# EAGLE library part MSP430F552X (library QuantumOptics)
MSP430F552x, TI MCU with ADCs, USB, bells & whistles, in 80-LQFP.
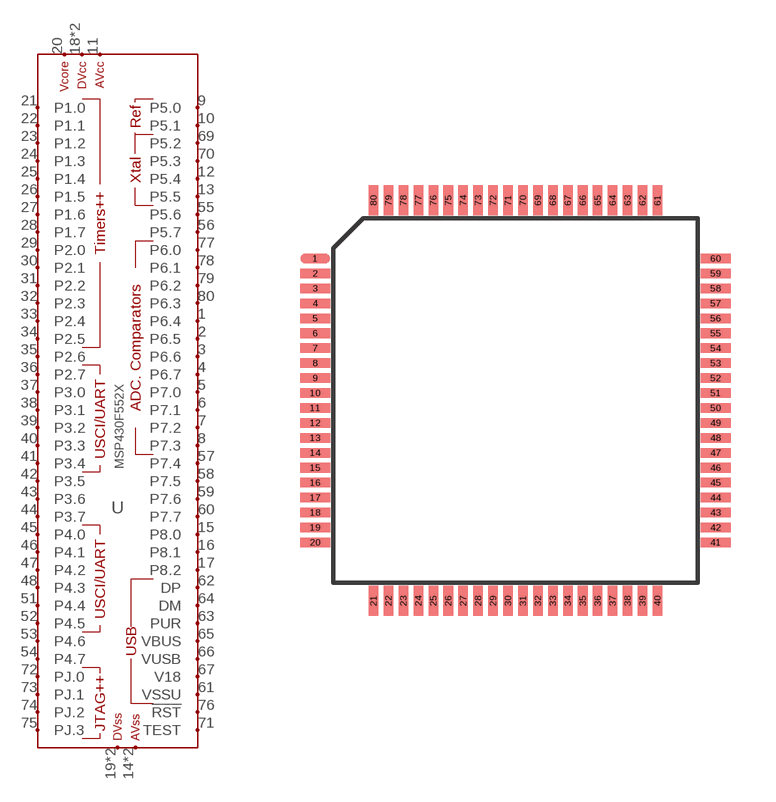
[diagram p205: symbol with the pads of QFP80(TI-PN_PACKAGE); footprint QFP80(TI-PN_PACKAGE)]

Designator prefix U

## MSP430F552X-QFP80  [QFP80(TI-PN_PACKAGE)]
1  P6.4
2  P6.5
3  P6.6
4  P6.7
5  P7.0
6  P7.1
7  P7.2
8  P7.3
9  P5.0
10  P5.1
11  AVCC
12  P5.4
13  P5.5
14  AVSS
15  P8.0
16  P8.1
17  P8.2
18  DVCC  in
19  DVSS  in
20  VCORE  in
21  P1.0
22  P1.1
23  P1.2
24  P1.3
25  P1.4
26  P1.5
27  P1.6
28  P1.7
29  P2.0
30  P2.1
31  P2.2
32  P2.3
33  P2.4
34  P2.5
35  P2.6
36  P2.7
37  P3.0
38  P3.1
39  P3.2
40  P3.3
41  P3.4
42  P3.5
43  P3.6
44  P3.7
45  P4.0
46  P4.1
47  P4.2
48  P4.3
49  DVSS  in
50  DVCC  in
51  P4.4
52  P4.5
53  P4.6
54  P4.7
55  P5.6
56  P5.7
57  P7.4
58  P7.5
59  P7.6
60  P7.7
61  VSSU
62  DP
63  PUR  in
64  DM
65  VBUS
66  VUSB
67  V18  out
68  AVSS
69  P5.2
70  P5.3
71  TEST  out
72  PJ.0
73  PJ.1
74  PJ.2
75  PJ.3
76  !RST  in
77  P6.0
78  P6.1
79  P6.2
80  P6.3

## Footprint QFP80(TI-PN_PACKAGE) (pad centres in mm)
QFN-80, AKA TI's S-PQFP-G80 & PN, as used on the MSP430 such as MSP430F552x. No pad.
smd 1 x 0.32: 1 -6.7,4.75; 2 -6.7,4.25; 3 -6.7,3.75; 4 -6.7,3.25; 5 -6.7,2.75; 6 -6.7,2.25; 7 -6.7,1.75; 8 -6.7,1.25; 9 -6.7,0.75; 10 -6.7,0.25; 11 -6.7,-0.25; 12 -6.7,-0.75; 13 -6.7,-1.25; 14 -6.7,-1.75; 15 -6.7,-2.25; 16 -6.7,-2.75; 17 -6.7,-3.25; 18 -6.7,-3.75; 19 -6.7,-4.25; 20 -6.7,-4.75; 41 6.7,-4.75; 42 6.7,-4.25; 43 6.7,-3.75; 44 6.7,-3.25; 45 6.7,-2.75; 46 6.7,-2.25; 47 6.7,-1.75; 48 6.7,-1.25; 49 6.7,-0.75; 50 6.7,-0.25; 51 6.7,0.25; 52 6.7,0.75; 53 6.7,1.25; 54 6.7,1.75; 55 6.7,2.25; 56 6.7,2.75; 57 6.7,3.25; 58 6.7,3.75; 59 6.7,4.25; 60 6.7,4.75
smd 0.32 x 1: 21 -4.75,-6.7; 22 -4.25,-6.7; 23 -3.75,-6.7; 24 -3.25,-6.7; 25 -2.75,-6.7; 26 -2.25,-6.7; 27 -1.75,-6.7; 28 -1.25,-6.7; 29 -0.75,-6.7; 30 -0.25,-6.7; 31 0.25,-6.7; 32 0.75,-6.7; 33 1.25,-6.7; 34 1.75,-6.7; 35 2.25,-6.7; 36 2.75,-6.7; 37 3.25,-6.7; 38 3.75,-6.7; 39 4.25,-6.7; 40 4.75,-6.7; 61 4.75,6.7; 62 4.25,6.7; 63 3.75,6.7; 64 3.25,6.7; 65 2.75,6.7; 66 2.25,6.7; 67 1.75,6.7; 68 1.25,6.7; 69 0.75,6.7; 70 0.25,6.7; 71 -0.25,6.7; 72 -0.75,6.7; 73 -1.25,6.7; 74 -1.75,6.7; 75 -2.25,6.7; 76 -2.75,6.7; 77 -3.25,6.7; 78 -3.75,6.7; 79 -4.25,6.7; 80 -4.75,6.7